# EAGLE library part 691311500007 (library Wuerth_Elektronik_eiCan_Terminal_Blocks_v2.0)
WR-TBL Serie 311 - 5.08 mm Open Vertical PCB Header , 7 Pins
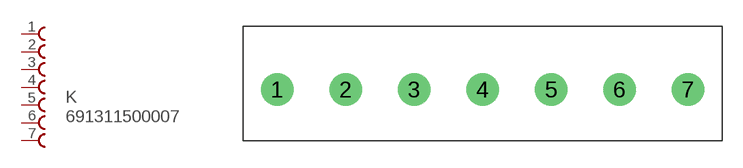
[diagram p92: symbol with the pads of 691311500007; footprint 691311500007]

Designator prefix K

## 691311500007  [691311500007]
1  1  pas
2  2  pas
3  3  pas
4  4  pas
5  5  pas
6  6  pas
7  7  pas

## Footprint 691311500007 (pad centres in mm)
WR-TBL Serie 311 - 5.08 mm Open Vertical PCB Header , 7 Pins
drill 1.6 round: 1 -15.24,0; 2 -10.16,0; 3 -5.08,0; 4 0,0; 5 5.08,0; 6 10.16,0; 7 15.24,0